# Altium footprint library CustomParts.PcbLib: 113 footprints (part 3 of 8)
Each footprint in its own frame and in the unit in brackets; x right, y up, seen from the top. Pads: shape width x height; smd on the part's side, far side on the other; paste and mask are expansions set on the pad; w line width, h text height; cw(c..) or ccw(c..) is an arc to the next point about the centre after c.
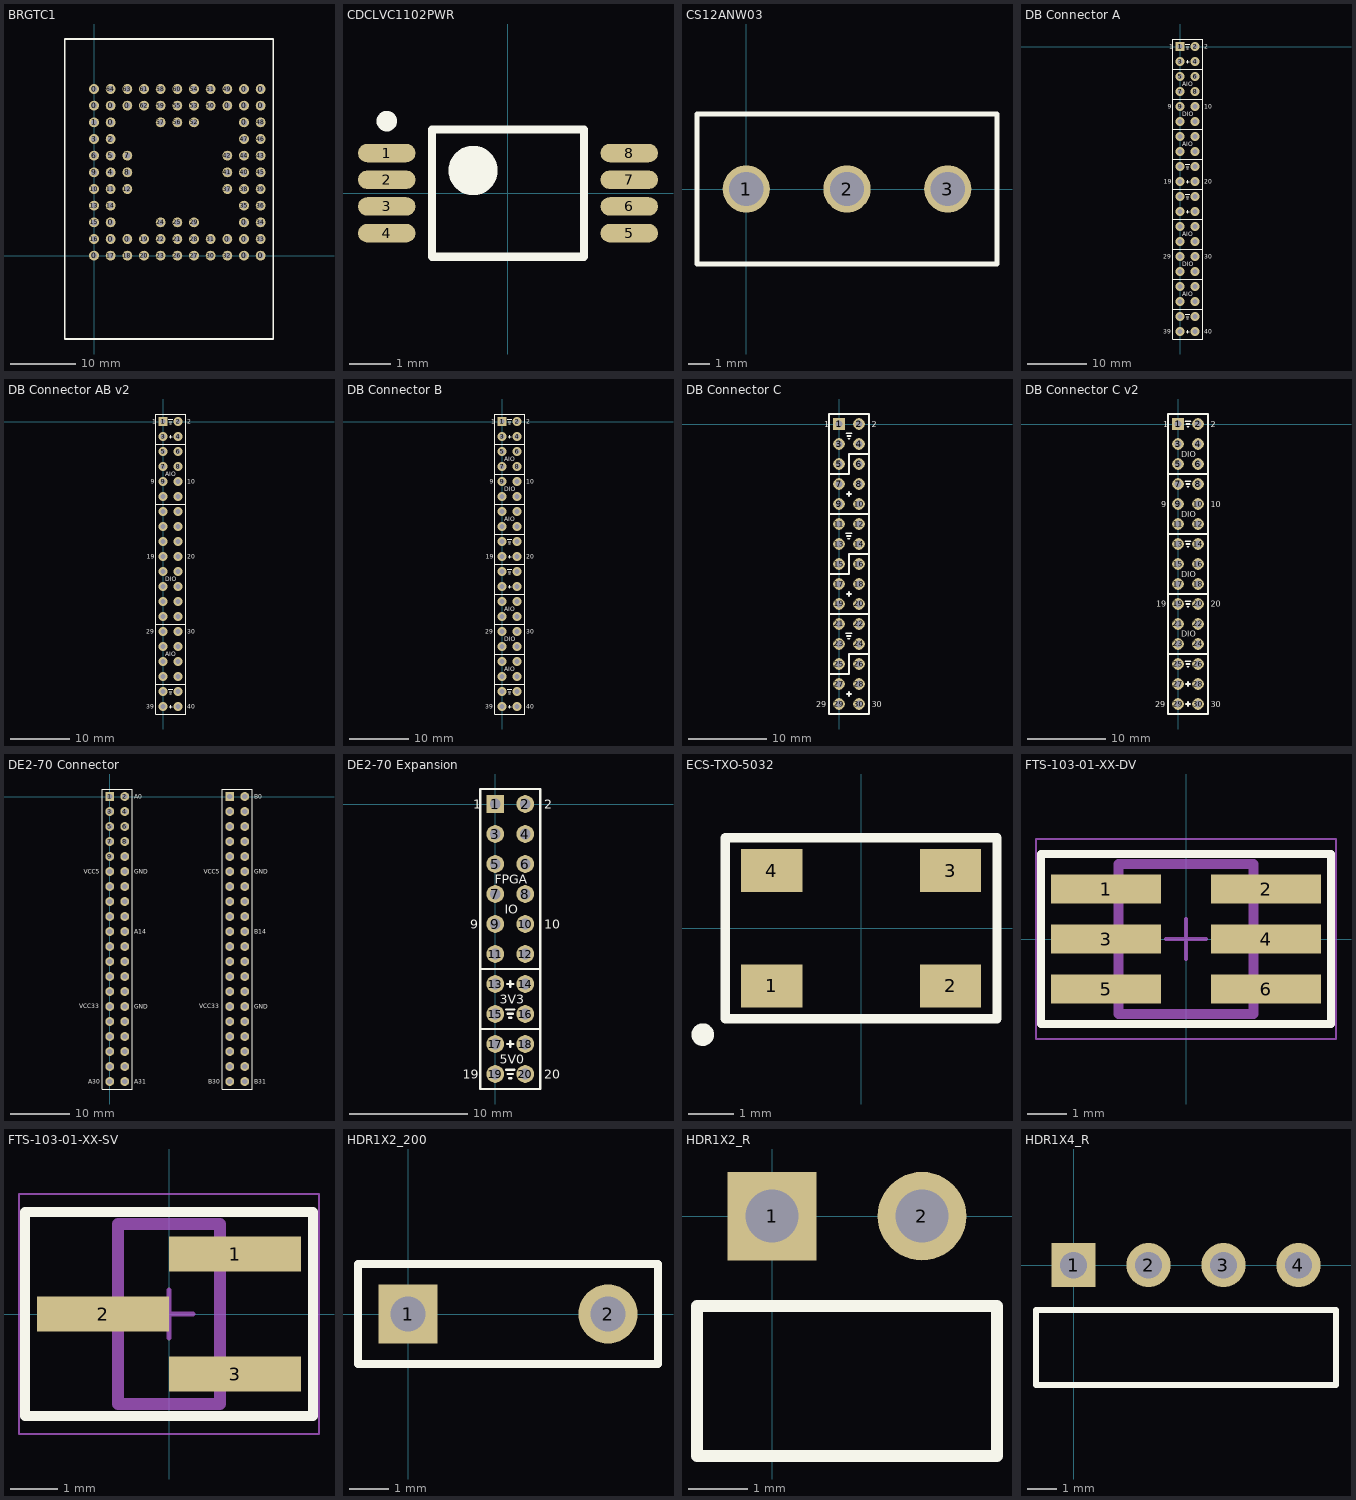
[diagram p2: the footprints below, top view; thin cyan lines are the x and y axes]

## BRGTC1 [mm] "Adapted from PGA socket 200-6311-9UN-1900"
pads (84):
  round 1.5 hole 0.9: 0(0,0) 0(0,22.86) 0(0,25.4) 0(2.54,2.54) 0(2.54,5.08) 0(2.54,20.32) 0(2.54,22.86) 0(5.08,2.54) 0(5.08,22.86) 0(20.32,2.54) 0(20.32,22.86) 0(22.86,0) 0(22.86,2.54) 0(22.86,5.08) 0(22.86,20.32) 0(22.86,22.86) 0(22.86,25.4) 0(25.4,0) 0(25.4,22.86) 0(25.4,25.4) 1(0,20.32) 2(2.54,17.78) 3(0,17.78) 4(2.54,12.7) 5(2.54,15.24) 6(0,15.24) 7(5.08,15.24) 8(5.08,12.7) 9(0,12.7) 10(0,10.16) 11(2.54,10.16) 12(5.08,10.16) 13(0,7.62) 14(2.54,7.62) 15(0,5.08) 16(0,2.54) 17(2.54,0) 18(5.08,0) 19(7.62,2.54) 20(7.62,0) 21(12.7,2.54) 22(10.16,2.54) 23(10.16,0) 24(10.16,5.08) 25(12.7,5.08) 26(12.7,0) 27(15.24,0) 28(15.24,2.54) 29(15.24,5.08) 30(17.78,0) 31(17.78,2.54) 32(20.32,0) 33(25.4,2.54) 34(25.4,5.08) 35(22.86,7.62) 36(25.4,7.62) 37(20.32,10.16) 38(22.86,10.16) 39(25.4,10.16) 40(22.86,12.7) 41(20.32,12.7) 42(20.32,15.24) 43(25.4,15.24) 44(22.86,15.24) 45(25.4,12.7) 46(25.4,17.78) 47(22.86,17.78) 48(25.4,20.32) 49(20.32,25.4) 50(17.78,22.86) 51(17.78,25.4) 52(15.24,20.32) 53(15.24,22.86) 54(15.24,25.4) 55(12.7,22.86) 56(12.7,20.32) 57(10.16,20.32) 58(10.16,25.4) 59(10.16,22.86) 60(12.7,25.4) 61(7.62,25.4) 62(7.62,22.86) 63(5.08,25.4) 64(2.54,25.4)
Top Overlay:
  lines w0.254: -4.445,-12.7 27.305,-12.7 27.305,33.02 -4.445,33.02 -4.445,-12.7
Mechanical 13:
  text "B" at -2.539,22.372 h1.52
  text "C" at -2.539,19.848 h1.52
  text "D" at -2.539,17.292 h1.52
  text "E" at -2.539,14.752 h1.52
  text "F" at -2.539,12.212 h1.52
  text "G" at -2.539,9.688 h1.52
  text "H" at -2.539,7.132 h1.52
  text "J" at -2.541,4.608 h1.52
  text "K" at -2.539,2.052 h1.52
  text "L" at -2.539,-0.488 h1.52
  text "A" at -2.54,24.912 h1.52
  text "1" at -0.559,-2.54 h1.52
  text "2" at 2.019,-2.54 h1.52
  text "3" at 4.597,-2.54 h1.52
  text "4" at 7.175,-2.54 h1.52
  text "5" at 9.753,-2.54 h1.52
  text "7" at 14.909,-2.54 h1.52
  text "8" at 17.487,-2.54 h1.52
  text "6" at 12.331,-2.54 h1.52
  text "9" at 20.064,-2.54 h1.52
  text "10" at 22.641,-2.54 h1.52
  text "11" at 25.22,-2.54 h1.52
3D body: height 10.16, standoff 0, extent -4.445,-12.7 27.305,33.02
3D body: height 34.29, standoff 3.56, extent 27.305,-22.86 31.75,21.59

## CDCLVC1102PWR [mm] "ALtium Generated 8-TSSOP (4.40mm Width)"
height 1.2
pads (8):
  oval 1.4x0.45 smd: 1(-2.95,0.975) 2(-2.95,0.325) 3(-2.95,-0.325) 4(-2.95,-0.975) 5(2.95,-0.975) 6(2.95,-0.325) 7(2.95,0.325) 8(2.95,0.975)
Top Overlay:
  circle w0.6: c-0.85,0.55 r0.3
  circle w0.25: c-2.95,1.75 r0.125
  lines w0.2: -1.85,-1.55 1.85,-1.55 1.85,1.55 -1.85,1.55 -1.85,-1.55
3D body: height 1.2, standoff 0.1, extent -2.25,-1.55 2.25,1.55

## CS12ANW03 [mm] "NKK Switches, SPDT Switch"
pads (3):
  round 2.2 hole 1.6: 1(0,0) 2(4.7,0) 3(9.4,0)
Top Overlay:
  lines w0.254: -2.3,-3.5 11.7,-3.5 11.7,3.5 -2.3,3.5 -2.3,-3.5
3D body: height 13.97, standoff 0, extent -2.286,-3.48 11.709,3.505

## DB Connector A [mm] "Daughterboard Connector A"
pads (40):
  rect 1.5x1.5 hole 0.9: 1(0,0)
  round 1.5 hole 0.9: 2(2.54,0) 3(0,-2.54) 4(2.54,-2.54) 5(0,-5.08) 6(2.54,-5.08) 7(0,-7.62) 8(2.54,-7.62) 9(0,-10.16) 10(2.54,-10.16) 11(0,-12.7) 12(2.54,-12.7) 13(0,-15.24) 14(2.54,-15.24) 15(0,-17.78) 16(2.54,-17.78) 17(0,-20.32) 18(2.54,-20.32) 19(0,-22.86) 20(2.54,-22.86) 21(0,-25.4) 22(2.54,-25.4) 23(0,-27.94) 24(2.54,-27.94) 25(0,-30.48) 26(2.54,-30.48) 27(0,-33.02) 28(2.54,-33.02) 29(0,-35.56) 30(2.54,-35.56) 31(0,-38.1) 32(2.54,-38.1) 33(0,-40.64) 34(2.54,-40.64) 35(0,-43.18) 36(2.54,-43.18) 37(0,-45.72) 38(2.54,-45.72) 39(0,-48.26) 40(2.54,-48.26)
Top Overlay:
  lines w0.203: -1.27,-44.45 3.81,-44.45 ; -1.27,-39.37 3.81,-39.37 ; -1.27,-34.29 3.81,-34.29 ; -1.27,-29.21 3.81,-29.21 ; -1.27,-24.13 3.81,-24.13 ; -1.27,-19.05 3.81,-19.05 ; -1.27,-13.97 3.81,-13.97 ; -1.27,-8.89 3.81,-8.89 ; -1.27,-3.81 3.81,-3.81 ; 0.914,-45.364 1.626,-45.364 ; 0.914,-25.044 1.626,-25.044 ; 0.914,-19.964 1.626,-19.964 ; 0.914,0.356 1.626,0.356 ; 1.016,-48.26 1.524,-48.26 ; 1.016,-27.94 1.524,-27.94 ; 1.016,-22.86 1.524,-22.86 ; 1.016,-2.54 1.524,-2.54 ; 1.041,-45.72 1.499,-45.72 ; 1.041,-25.4 1.499,-25.4 ; 1.041,-20.32 1.499,-20.32 ; 1.041,0 1.499,0 ; 1.168,-46.076 1.372,-46.076 ; 1.168,-25.756 1.372,-25.756 ; 1.168,-20.676 1.372,-20.676 ; 1.168,-0.356 1.372,-0.356 ; 1.27,-48.514 1.27,-48.006 ; 1.27,-28.194 1.27,-27.686 ; 1.27,-23.114 1.27,-22.606 ; 1.27,-2.794 1.27,-2.286 ; -1.27,-49.53 3.81,-49.53 3.81,1.27 -1.27,1.27 -1.27,-49.53
  text "DIO" at 0.381,-11.811 h0.76
  text "AIO" at 0.381,-6.731 h0.76
  text "30" at 4.14,-35.941 h0.76
  text "29" at -2.87,-35.941 h0.76
  text "20" at 4.14,-23.241 h0.76
  text "19" at -2.743,-23.241 h0.76
  text "10" at 4.14,-10.541 h0.76
  text "9" at -2.108,-10.541 h0.76
  text "39" at -2.87,-48.641 h0.76
  text "40" at 4.14,-48.641 h0.76
  text "2" at 4.14,-0.381 h0.76
  text "1" at -1.854,-0.381 h0.76
  text "AIO" at 0.381,-16.891 h0.76
  text "AIO" at 0.381,-42.291 h0.76
  text "AIO" at 0.381,-32.131 h0.76
  text "DIO" at 0.381,-37.211 h0.76

## DB Connector AB v2 [mm] "Daughterboard Connector AB v2"
pads (40):
  rect 1.5x1.5 hole 0.9: 1(0,0)
  round 1.5 hole 0.9: 2(2.54,0) 3(0,-2.54) 4(2.54,-2.54) 5(0,-5.08) 6(2.54,-5.08) 7(0,-7.62) 8(2.54,-7.62) 9(0,-10.16) 10(2.54,-10.16) 11(0,-12.7) 12(2.54,-12.7) 13(0,-15.24) 14(2.54,-15.24) 15(0,-17.78) 16(2.54,-17.78) 17(0,-20.32) 18(2.54,-20.32) 19(0,-22.86) 20(2.54,-22.86) 21(0,-25.4) 22(2.54,-25.4) 23(0,-27.94) 24(2.54,-27.94) 25(0,-30.48) 26(2.54,-30.48) 27(0,-33.02) 28(2.54,-33.02) 29(0,-35.56) 30(2.54,-35.56) 31(0,-38.1) 32(2.54,-38.1) 33(0,-40.64) 34(2.54,-40.64) 35(0,-43.18) 36(2.54,-43.18) 37(0,-45.72) 38(2.54,-45.72) 39(0,-48.26) 40(2.54,-48.26)
Top Overlay:
  lines w0.203: -1.27,-44.45 3.81,-44.45 ; -1.27,-34.29 3.81,-34.29 ; -1.27,-13.97 3.81,-13.97 ; -1.27,-3.81 3.81,-3.81 ; 0.914,-45.364 1.626,-45.364 ; 0.914,0.356 1.626,0.356 ; 1.016,-48.26 1.524,-48.26 ; 1.016,-2.54 1.524,-2.54 ; 1.041,-45.72 1.499,-45.72 ; 1.041,0 1.499,0 ; 1.168,-46.076 1.372,-46.076 ; 1.168,-0.356 1.372,-0.356 ; 1.27,-48.514 1.27,-48.006 ; 1.27,-2.794 1.27,-2.286 ; -1.27,-49.53 -1.27,1.27 3.81,1.27 3.81,-49.53 -1.27,-49.53
  text "AIO" at 0.381,-39.751 h0.76
  text "1" at -1.854,-0.381 h0.76
  text "2" at 4.14,-0.381 h0.76
  text "40" at 4.14,-48.641 h0.76
  text "39" at -2.87,-48.641 h0.76
  text "9" at -2.108,-10.541 h0.76
  text "10" at 4.14,-10.541 h0.76
  text "19" at -2.743,-23.241 h0.76
  text "20" at 4.14,-23.241 h0.76
  text "29" at -2.87,-35.941 h0.76
  text "30" at 4.14,-35.941 h0.76
  text "AIO" at 0.381,-9.271 h0.76
  text "DIO" at 0.381,-27.051 h0.76

## DB Connector B [mm] "Daughterboard Connector B"
pads (40):
  rect 1.5x1.5 hole 0.9: 1(0,0)
  round 1.5 hole 0.9: 2(2.54,0) 3(0,-2.54) 4(2.54,-2.54) 5(0,-5.08) 6(2.54,-5.08) 7(0,-7.62) 8(2.54,-7.62) 9(0,-10.16) 10(2.54,-10.16) 11(0,-12.7) 12(2.54,-12.7) 13(0,-15.24) 14(2.54,-15.24) 15(0,-17.78) 16(2.54,-17.78) 17(0,-20.32) 18(2.54,-20.32) 19(0,-22.86) 20(2.54,-22.86) 21(0,-25.4) 22(2.54,-25.4) 23(0,-27.94) 24(2.54,-27.94) 25(0,-30.48) 26(2.54,-30.48) 27(0,-33.02) 28(2.54,-33.02) 29(0,-35.56) 30(2.54,-35.56) 31(0,-38.1) 32(2.54,-38.1) 33(0,-40.64) 34(2.54,-40.64) 35(0,-43.18) 36(2.54,-43.18) 37(0,-45.72) 38(2.54,-45.72) 39(0,-48.26) 40(2.54,-48.26)
Top Overlay:
  lines w0.203: -1.27,-44.45 3.81,-44.45 ; -1.27,-39.37 3.81,-39.37 ; -1.27,-34.29 3.81,-34.29 ; -1.27,-29.21 3.81,-29.21 ; -1.27,-24.13 3.81,-24.13 ; -1.27,-19.05 3.81,-19.05 ; -1.27,-13.97 3.81,-13.97 ; -1.27,-8.89 3.81,-8.89 ; -1.27,-3.81 3.81,-3.81 ; 0.914,-45.364 1.626,-45.364 ; 0.914,-25.044 1.626,-25.044 ; 0.914,-19.964 1.626,-19.964 ; 0.914,0.356 1.626,0.356 ; 1.016,-48.26 1.524,-48.26 ; 1.016,-27.94 1.524,-27.94 ; 1.016,-22.86 1.524,-22.86 ; 1.016,-2.54 1.524,-2.54 ; 1.041,-45.72 1.499,-45.72 ; 1.041,-25.4 1.499,-25.4 ; 1.041,-20.32 1.499,-20.32 ; 1.041,0 1.499,0 ; 1.168,-46.076 1.372,-46.076 ; 1.168,-25.756 1.372,-25.756 ; 1.168,-20.676 1.372,-20.676 ; 1.168,-0.356 1.372,-0.356 ; 1.27,-48.514 1.27,-48.006 ; 1.27,-28.194 1.27,-27.686 ; 1.27,-23.114 1.27,-22.606 ; 1.27,-2.794 1.27,-2.286 ; -1.27,-49.53 3.81,-49.53 3.81,1.27 -1.27,1.27 -1.27,-49.53
  text "30" at 4.14,-35.941 h0.76
  text "29" at -2.87,-35.941 h0.76
  text "20" at 4.14,-23.241 h0.76
  text "19" at -2.743,-23.241 h0.76
  text "10" at 4.14,-10.541 h0.76
  text "9" at -2.108,-10.541 h0.76
  text "39" at -2.87,-48.641 h0.76
  text "40" at 4.14,-48.641 h0.76
  text "2" at 4.14,-0.381 h0.76
  text "1" at -1.854,-0.381 h0.76
  text "DIO" at 0.381,-11.811 h0.76
  text "AIO" at 0.381,-6.731 h0.76
  text "AIO" at 0.381,-16.891 h0.76
  text "AIO" at 0.381,-42.291 h0.76
  text "AIO" at 0.381,-32.131 h0.76
  text "DIO" at 0.381,-37.211 h0.76

## DB Connector C [mm] "Daughterboard Connector C"
pads (30):
  rect 1.5x1.5 hole 0.9: 1(0,0)
  round 1.5 hole 0.9: 2(2.54,0) 3(0,-2.54) 4(2.54,-2.54) 5(0,-5.08) 6(2.54,-5.08) 7(0,-7.62) 8(2.54,-7.62) 9(0,-10.16) 10(2.54,-10.16) 11(0,-12.7) 12(2.54,-12.7) 13(0,-15.24) 14(2.54,-15.24) 15(0,-17.78) 16(2.54,-17.78) 17(0,-20.32) 18(2.54,-20.32) 19(0,-22.86) 20(2.54,-22.86) 21(0,-25.4) 22(2.54,-25.4) 23(0,-27.94) 24(2.54,-27.94) 25(0,-30.48) 26(2.54,-30.48) 27(0,-33.02) 28(2.54,-33.02) 29(0,-35.56) 30(2.54,-35.56)
Top Overlay:
  lines w0.203: -1.27,-31.75 1.27,-31.75 1.27,-29.21 3.81,-29.21 ; -1.27,-24.13 3.81,-24.13 ; -1.27,-19.05 1.27,-19.05 1.27,-16.51 3.81,-16.51 ; -1.27,-11.43 3.81,-11.43 ; -1.27,-6.35 1.27,-6.35 1.27,-3.81 3.81,-3.81 ; 0.889,-26.568 1.6,-26.568 ; 0.889,-13.868 1.6,-13.868 ; 0.914,-1.168 1.626,-1.168 ; 1.016,-34.29 1.524,-34.29 ; 1.016,-26.924 1.473,-26.924 ; 1.016,-21.59 1.524,-21.59 ; 1.016,-14.224 1.473,-14.224 ; 1.016,-8.89 1.524,-8.89 ; 1.041,-1.524 1.499,-1.524 ; 1.143,-27.28 1.346,-27.28 ; 1.143,-14.58 1.346,-14.58 ; 1.168,-1.88 1.372,-1.88 ; 1.27,-34.544 1.27,-34.036 ; 1.27,-21.844 1.27,-21.336 ; 1.27,-9.144 1.27,-8.636 ; -1.27,-36.83 -1.27,1.27 3.81,1.27 3.81,-36.83 -1.27,-36.83
  text "2" at 4.14,-0.381 h0.76
  text "1" at -1.854,-0.381 h0.76
  text "29" at -2.87,-35.941 h0.76
  text "30" at 4.14,-35.941 h0.76

## DB Connector C v2 [mm] "Daughterboard Connector C v2"
pads (30):
  rect 1.5x1.5 hole 0.9: 1(0,0)
  round 1.5 hole 0.9: 2(2.54,0) 3(0,-2.54) 4(2.54,-2.54) 5(0,-5.08) 6(2.54,-5.08) 7(0,-7.62) 8(2.54,-7.62) 9(0,-10.16) 10(2.54,-10.16) 11(0,-12.7) 12(2.54,-12.7) 13(0,-15.24) 14(2.54,-15.24) 15(0,-17.78) 16(2.54,-17.78) 17(0,-20.32) 18(2.54,-20.32) 19(0,-22.86) 20(2.54,-22.86) 21(0,-25.4) 22(2.54,-25.4) 23(0,-27.94) 24(2.54,-27.94) 25(0,-30.48) 26(2.54,-30.48) 27(0,-33.02) 28(2.54,-33.02) 29(0,-35.56) 30(2.54,-35.56)
Top Overlay:
  lines w0.203: -1.27,-29.21 3.81,-29.21 ; -1.27,-21.59 3.81,-21.59 ; -1.27,-13.97 3.81,-13.97 ; -1.27,-6.35 3.81,-6.35 ; 0.914,-30.124 1.626,-30.124 ; 0.914,-22.504 1.626,-22.504 ; 0.914,-14.884 1.626,-14.884 ; 0.914,-7.264 1.626,-7.264 ; 0.914,0.356 1.626,0.356 ; 1.016,-35.56 1.524,-35.56 ; 1.016,-33.02 1.524,-33.02 ; 1.041,-30.48 1.499,-30.48 ; 1.041,-22.86 1.499,-22.86 ; 1.041,-15.24 1.499,-15.24 ; 1.041,-7.62 1.499,-7.62 ; 1.041,0 1.499,0 ; 1.168,-30.836 1.372,-30.836 ; 1.168,-23.216 1.372,-23.216 ; 1.168,-15.596 1.372,-15.596 ; 1.168,-7.976 1.372,-7.976 ; 1.168,-0.356 1.372,-0.356 ; 1.27,-35.814 1.27,-35.306 ; 1.27,-33.274 1.27,-32.766 ; -1.27,-36.83 3.81,-36.83 3.81,1.27 -1.27,1.27 -1.27,-36.83
  text "DIO" at 0.381,-27.051 h0.76
  text "DIO" at 0.381,-11.811 h0.76
  text "DIO" at 0.381,-4.191 h0.76
  text "30" at 4.14,-35.941 h0.76
  text "29" at -2.87,-35.941 h0.76
  text "20" at 4.14,-23.241 h0.76
  text "19" at -2.743,-23.241 h0.76
  text "10" at 4.14,-10.541 h0.76
  text "9" at -2.108,-10.541 h0.76
  text "2" at 4.14,-0.381 h0.76
  text "1" at -1.854,-0.381 h0.76
  text "DIO" at 0.381,-19.431 h0.76

## DE2-70 Connector [mm] "DE2-70 Connector"
pads (80):
  rect 1.5x1.5 hole 0.9: 1(0,0) 41(20.32,0)
  round 1.5 hole 0.9: 2(2.54,0) 3(0,-2.54) 4(2.54,-2.54) 5(0,-5.08) 6(2.54,-5.08) 7(0,-7.62) 8(2.54,-7.62) 9(0,-10.16) 10(2.54,-10.16) 11(0,-12.7) 12(2.54,-12.7) 13(0,-15.24) 14(2.54,-15.24) 15(0,-17.78) 16(2.54,-17.78) 17(0,-20.32) 18(2.54,-20.32) 19(0,-22.86) 20(2.54,-22.86) 21(0,-25.4) 22(2.54,-25.4) 23(0,-27.94) 24(2.54,-27.94) 25(0,-30.48) 26(2.54,-30.48) 27(0,-33.02) 28(2.54,-33.02) 29(0,-35.56) 30(2.54,-35.56) 31(0,-38.1) 32(2.54,-38.1) 33(0,-40.64) 34(2.54,-40.64) 35(0,-43.18) 36(2.54,-43.18) 37(0,-45.72) 38(2.54,-45.72) 39(0,-48.26) 40(2.54,-48.26) 42(22.86,0) 43(20.32,-2.54) 44(22.86,-2.54) 45(20.32,-5.08) 46(22.86,-5.08) 47(20.32,-7.62) 48(22.86,-7.62) 49(20.32,-10.16) 50(22.86,-10.16) 51(20.32,-12.7) 52(22.86,-12.7) 53(20.32,-15.24) 54(22.86,-15.24) 55(20.32,-17.78) 56(22.86,-17.78) 57(20.32,-20.32) 58(22.86,-20.32) 59(20.32,-22.86) 60(22.86,-22.86) 61(20.32,-25.4) 62(22.86,-25.4) 63(20.32,-27.94) 64(22.86,-27.94) 65(20.32,-30.48) 66(22.86,-30.48) 67(20.32,-33.02) 68(22.86,-33.02) 69(20.32,-35.56) 70(22.86,-35.56) 71(20.32,-38.1) 72(22.86,-38.1) 73(20.32,-40.64) 74(22.86,-40.64) 75(20.32,-43.18) 76(22.86,-43.18) 77(20.32,-45.72) 78(22.86,-45.72) 79(20.32,-48.26) 80(22.86,-48.26)
Top Overlay:
  lines w0.203: -1.27,-49.53 -1.27,1.27 3.81,1.27 3.81,-49.53 -1.27,-49.53 ; 19.05,-49.53 24.13,-49.53 24.13,1.27 19.05,1.27 19.05,-49.53
  text "GND" at 24.46,-35.941 h0.76
  text "VCC33" at 15.164,-35.89 h0.76
  text "B14" at 24.46,-23.241 h0.76
  text "GND" at 24.46,-13.081 h0.76
  text "VCC5" at 15.926,-13.081 h0.76
  text "B30" at 16.688,-48.641 h0.76
  text "B31" at 24.46,-48.641 h0.76
  text "B0" at 24.46,-0.381 h0.76
  text "A0" at 4.14,-0.381 h0.76
  text "A31" at 4.14,-48.641 h0.76
  text "A30" at -3.632,-48.641 h0.76
  text "VCC5" at -4.394,-13.081 h0.76
  text "GND" at 4.14,-13.081 h0.76
  text "A14" at 4.14,-23.241 h0.76
  text "VCC33" at -5.156,-35.89 h0.76
  text "GND" at 4.14,-35.941 h0.76

## DE2-70 Expansion [mm] "DE2-70 Expansion Header"
pads (20):
  rect 1.5x1.5 hole 0.9: 1(0,0)
  round 1.5 hole 0.9: 2(2.54,0) 3(0,-2.54) 4(2.54,-2.54) 5(0,-5.08) 6(2.54,-5.08) 7(0,-7.62) 8(2.54,-7.62) 9(0,-10.16) 10(2.54,-10.16) 11(0,-12.7) 12(2.54,-12.7) 13(0,-15.24) 14(2.54,-15.24) 15(0,-17.78) 16(2.54,-17.78) 17(0,-20.32) 18(2.54,-20.32) 19(0,-22.86) 20(2.54,-22.86)
Top Overlay:
  lines w0.203: -1.27,-19.05 3.81,-19.05 ; -1.27,-13.97 3.81,-13.97 ; 0.914,-22.504 1.626,-22.504 ; 0.914,-17.399 1.626,-17.399 ; 1.016,-20.32 1.524,-20.32 ; 1.016,-15.24 1.524,-15.24 ; 1.041,-22.86 1.499,-22.86 ; 1.041,-17.755 1.499,-17.755 ; 1.168,-23.216 1.372,-23.216 ; 1.168,-18.11 1.372,-18.11 ; 1.27,-20.574 1.27,-20.066 ; 1.27,-15.494 1.27,-14.986 ; -1.27,-24.13 3.81,-24.13 3.81,1.27 -1.27,1.27 -1.27,-24.13
  text "5V0" at 0.381,-21.971 h0.76
  text "FPGA" at -0.025,-6.731 h0.76
  text "1" at -1.854,-0.381 h0.76
  text "2" at 4.14,-0.381 h0.76
  text "9" at -2.108,-10.541 h0.76
  text "10" at 4.14,-10.541 h0.76
  text "19" at -2.743,-23.241 h0.76
  text "20" at 4.14,-23.241 h0.76
  text "3V3" at 0.381,-16.891 h0.76
  text "IO" at 0.787,-9.296 h0.76

## ECS-TXO-5032 [mm]
pads (4):
  rect 1.35x0.95 smd: 1(-1.975,-1.275) 2(1.975,-1.275) 3(1.975,1.275) 4(-1.975,1.275)
Top Overlay:
  circle w0.25: c-3.5,-2.35 r0.125
  lines w0.203: -3,-2 3,-2 3,2 -3,2 -3,-2
3D body: height 1.5, standoff 0, extent -2.54,-1.6 2.54,1.6

## FTS-103-01-XX-DV [mil] "0.050 inch, 2x3 Pins, double vertical, low-profile terminal strip"
pads (6):
  rect 110x29 smd mask+2: 1(-80,50) 2(80,50) 3(-80,0) 4(80,0) 5(-80,-50) 6(80,-50)
Top Overlay:
  lines w8: -145,-85 145,-85 145,85 -145,85 -145,-85
Mechanical 13:
  lines w10: -67.5,-75 -67.5,75 67.5,75 67.5,-75 -67.5,-75
Mechanical 15:
  lines w2: -150,-100 -150,100 150,100 150,-100 -150,-100
  lines w4: -20,0 20,0 ; 0,-20 0,20
3D body "FTS-103-01-F-DV.stp": height 169.75, standoff -0.25, extent -115,-74.99 115,75

## FTS-103-01-XX-SV [mil] "0.050 inch, 1x3 Pins, single vertical, low-profile terminal strip"
pads (3):
  rect 110x29 smd mask+2: 1(55,50) 2(-55,0) 3(55,-50)
Top Overlay:
  lines w8: -120,-85 -120,85 120,85 120,-85 -120,-85
Mechanical 13:
  lines w10: -42.5,-75 42.5,-75 42.5,75 -42.5,75 -42.5,-75
Mechanical 15:
  lines w2: -125,-100 125,-100 125,100 -125,100 -125,-100
  lines w4: -20,0 20,0 ; 0,-20 0,20
3D body "FTS-103-01-F-SV.stp": height 169.75, standoff -0.25, extent -89.89,-74.99 89.89,75.01

## HDR1X2_200 [mm] "Header, 2-Pin, 200 mil Pitch"
pads (2):
  rect 1.5x1.5 hole 0.9: 1(0,0)
  round 1.5 hole 0.9: 2(5.08,0)
Top Overlay:
  lines w0.203: -1.27,-1.27 6.35,-1.27 6.35,1.27 -1.27,1.27 -1.27,-1.27

## HDR1X2_R [mm] "Power Header; 2 Position; Right Angle"
pads (2):
  rect 1.5x1.5 hole 0.9: 1(0,0)
  round 1.5 hole 0.9: 2(2.54,0)
Top Overlay:
  lines w0.203: -1.27,-4.064 3.81,-4.064 3.81,-1.524 -1.27,-1.524 -1.27,-4.064

## HDR1X4_R [mm] "Power Header; 4 Position; Right Angle"
pads (4):
  rect 1.5x1.5 hole 0.9: 1(0,0)
  round 1.5 hole 0.9: 2(2.54,0) 3(5.08,0) 4(7.62,0)
Top Overlay:
  lines w0.203: -1.27,-4.064 -1.27,-1.524 8.89,-1.524 8.89,-4.064 -1.27,-4.064